# Altium footprint library Toggle_Switch_Series_PCB_Library_ARAF.PcbLib: 1 footprints
Each footprint in its own frame and in the unit in brackets; x right, y up, seen from the top. Pads: shape width x height; smd on the part's side, far side on the other; paste and mask are expansions set on the pad; w line width, h text height; cw(c..) or ccw(c..) is an arc to the next point about the centre after c.
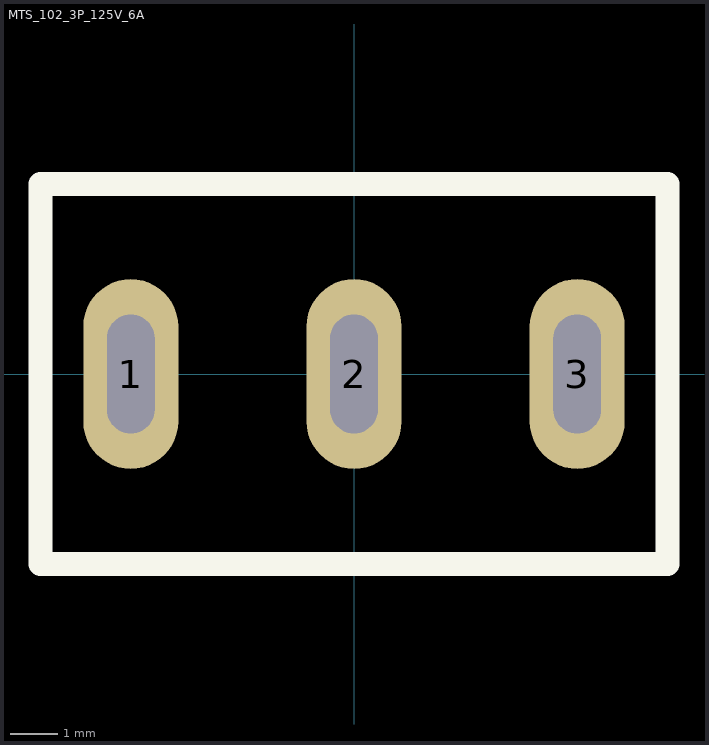
[diagram p0: the footprint, top view; thin cyan lines are the x and y axes]

## MTS_102_3P_125V_6A [mm]
pads (3):
  rrect100% 2x4 hole 2.5 slot 1 at 0 deg: 1(-4.7,0) 2(0,0) 3(4.7,0)
Top Overlay:
  lines w0.5: -6.6,-4 -6.6,4 6.6,4 6.6,-4 -6.6,-4
3D body "MTS-1xx-A1-red.step": height 30.13, standoff -3.2, extent -6.792,-5.999 6.6,5.999